# Altium footprint library CONN_5X_686105183822.PcbLib: 1 footprints
Each footprint in its own frame and in the unit in brackets; x right, y up, seen from the top. Pads: shape width x height; smd on the part's side, far side on the other; paste and mask are expansions set on the pad; w line width, h text height; cw(c..) or ccw(c..) is an arc to the next point about the centre after c.
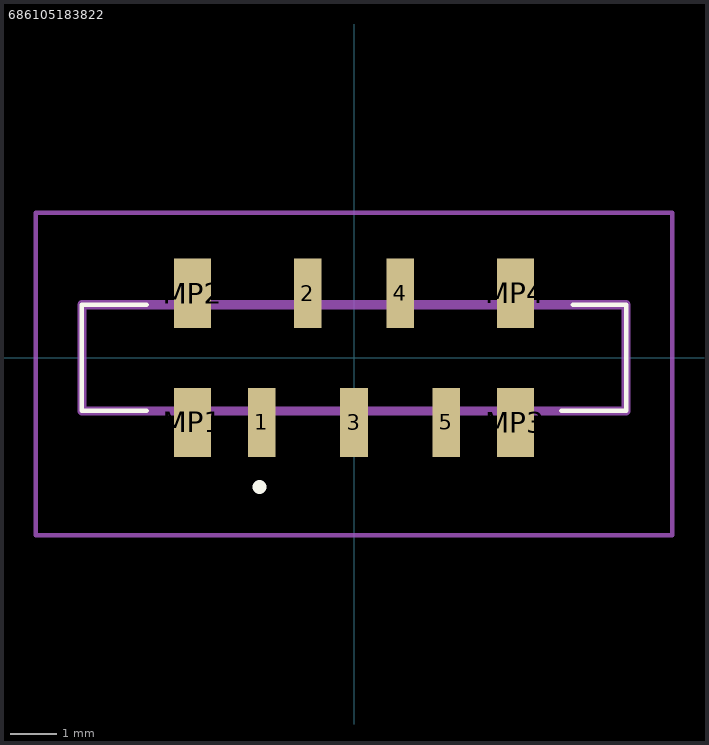
[diagram p0: the footprint, top view; thin cyan lines are the x and y axes]

## 686105183822 [mm]
pads (9):
  rect 0.6x1.5 smd: 1(-2,-1.4) 2(-1,1.4) 3(0,-1.4) 4(1,1.4) 5(2,-1.4)
  rect 0.8x1.5 smd: MP1(-3.5,-1.4) MP2(-3.5,1.4) MP3(3.5,-1.4) MP4(3.5,1.4)
Top Overlay:
  lines w0.1: -5.9,-1.15 -5.9,1.15 ; -5.9,-1.15 -5.9,1.15 ; -5.9,-1.15 -4.5,-1.15 -5.9,-1.15 ; -5.9,1.15 -4.5,1.15 -5.9,1.15 ; 5.9,-1.15 5.9,1.15 ; 5.9,-1.15 5.9,1.15 ; 5.9,-1.15 4.5,-1.15 5.9,-1.15 ; 5.9,1.15 4.75,1.15 5.9,1.15
  lines w0.2: -2.1,-2.8 ccw(c-2.05,-2.8) -2,-2.8 ; -2.1,-2.8 cw(c-2.05,-2.8) -2,-2.8 ; -2.1,-2.8 ccw(c-2.05,-2.8) -2,-2.8
Mechanical 15:
  lines w0.2: -5.9,-1.15 5.9,-1.15 5.9,1.15 -5.9,1.15 -5.9,-1.15
Mechanical 20:
  lines w0.1: -6.9,-3.85 6.9,-3.85 6.9,3.15 -6.9,3.15 -6.9,-3.85
3D body "686105183822.stp": height 4.1, standoff 0, extent -5.9,-2.09 5.9,2.09